# Altium schematic symbol library MCU_Microchip_PIC16.SchLib: 259 symbols (part 5 of 5)
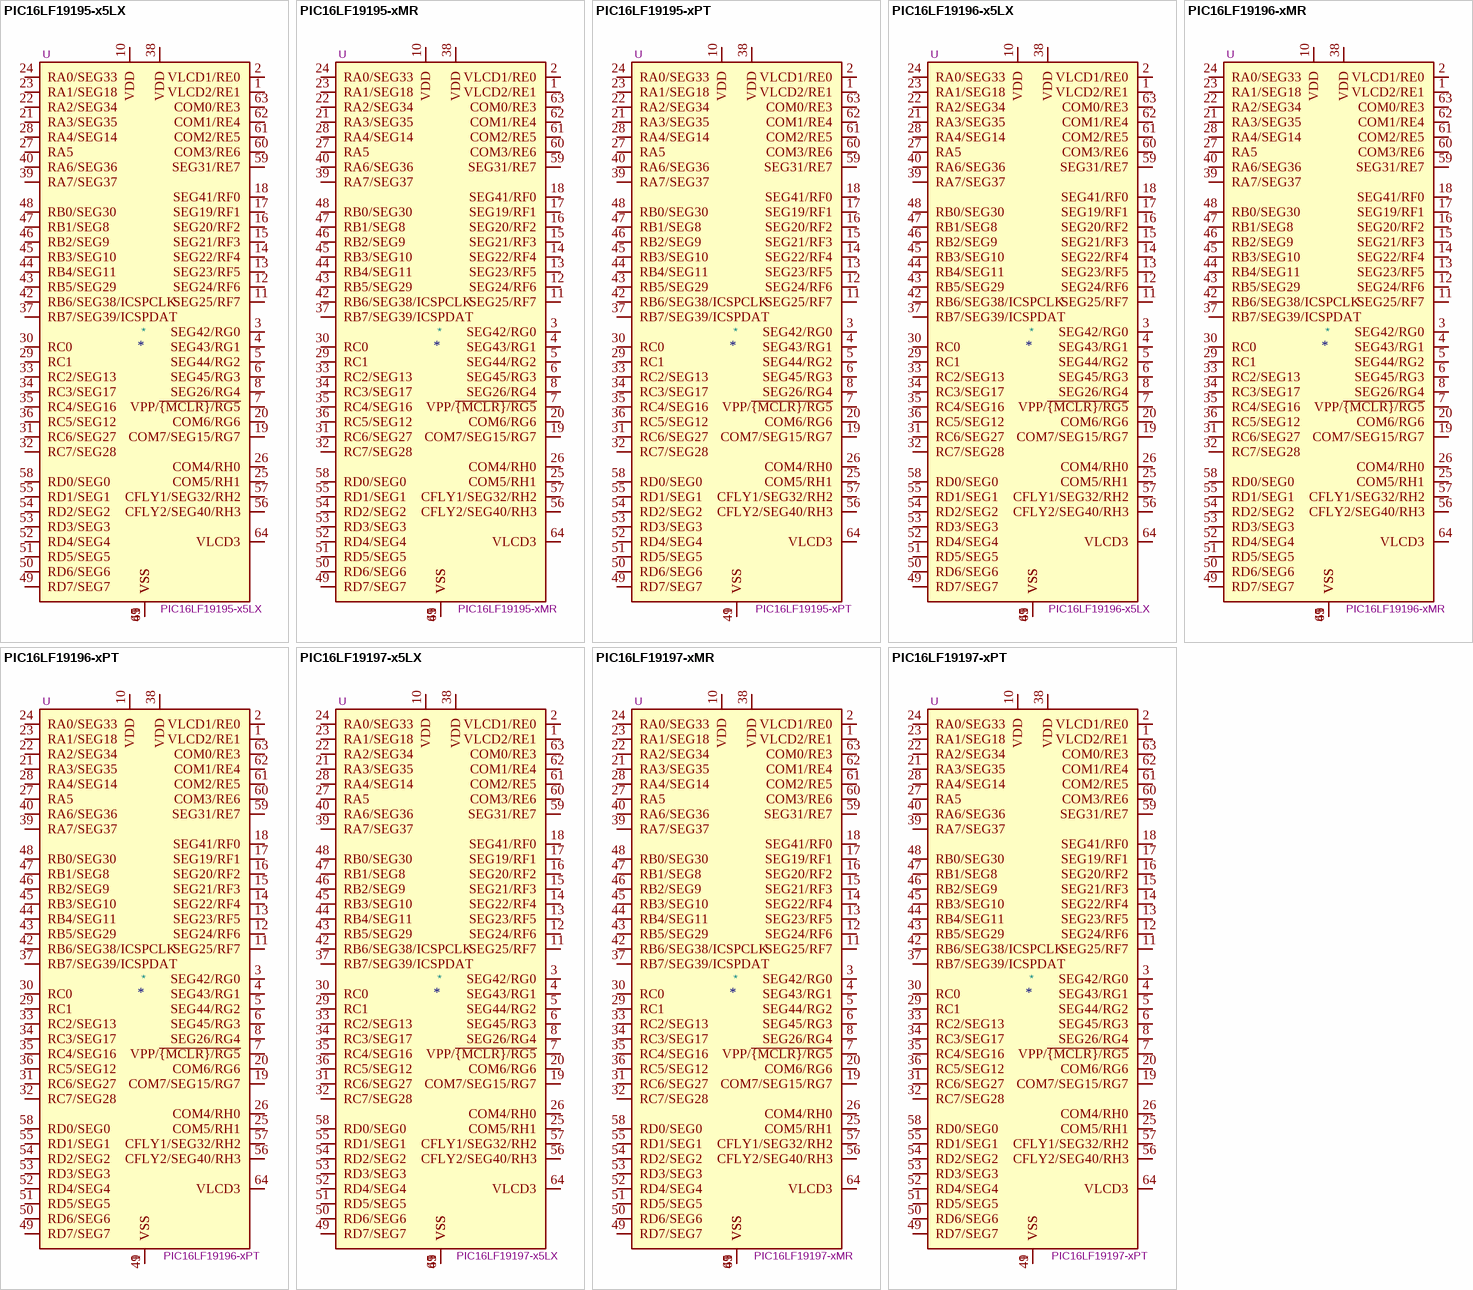
[diagram p23: symbols PIC16LF19195-x5LX to PIC16LF19197-xPT]

## PIC16LF19197-xMR
designator *  value PIC16LF19197-xMR  Reference: U
32kW FLASH, 4kB RAM, 256B EEPROM, QFN-64; ki_keywords: FLASH-Based 8-Bit CMOS Microcontroller Low Power; ki_fp_filters: QFN*9x9mm*P0.5mm*; Footprint: Package_DFN_QFN:QFN-64-1EP_9x9mm_P0.5mm_EP5.4x5.4mm; Datasheet: http://ww1.microchip.com/downloads/en/DeviceDoc/PIC16LF19195-6-7-Data-Sheet-40001873D.pdf; Description_: 32kW FLASH, 4kB RAM, 256B EEPROM, QFN-64
pins: 1 VLCD2/RE1, 2 VLCD1/RE0, 3 SEG42/RG0, 4 SEG43/RG1, 5 SEG44/RG2, 6 SEG45/RG3, 7 VPP/~{{MCLR}/RG5}, 8 SEG26/RG4, 9 VSS, 10 VDD, 11 SEG25/RF7, 12 SEG24/RF6, 13 SEG23/RF5, 14 SEG22/RF4, 15 SEG21/RF3, 16 SEG20/RF2, 17 SEG19/RF1, 18 SEG41/RF0, 19 COM7/SEG15/RG7, 20 COM6/RG6, 21 RA3/SEG35, 22 RA2/SEG34, 23 RA1/SEG18, 24 RA0/SEG33, 25 COM5/RH1, 26 COM4/RH0, 27 RA5, 28 RA4/SEG14, 29 RC1, 30 RC0, 31 RC6/SEG27, 32 RC7/SEG28, 33 RC2/SEG13, 34 RC3/SEG17, 35 RC4/SEG16, 36 RC5/SEG12, 37 RB7/SEG39/ICSPDAT, 38 VDD, 39 RA7/SEG37, 40 RA6/SEG36, 41 VSS, 42 RB6/SEG38/ICSPCLK, 43 RB5/SEG29, 44 RB4/SEG11, 45 RB3/SEG10, 46 RB2/SEG9, 47 RB1/SEG8, 48 RB0/SEG30, 49 RD7/SEG7, 50 RD6/SEG6, 51 RD5/SEG5, 52 RD4/SEG4, 53 RD3/SEG3, 54 RD2/SEG2, 55 RD1/SEG1, 56 CFLY2/SEG40/RH3, 57 CFLY1/SEG32/RH2, 58 RD0/SEG0, 59 SEG31/RE7, 60 COM3/RE6, 61 COM2/RE5, 62 COM1/RE4, 63 COM0/RE3, 64 VLCD3, 65 VSS

## PIC16LF19197-xPT
designator *  value PIC16LF19197-xPT  Reference: U
32kW FLASH, 4kB RAM, 256B EEPROM, TQFP-64; ki_keywords: FLASH-Based 8-Bit CMOS Microcontroller Low Power; ki_fp_filters: TQFP*10x10mm*P0.5mm*; Footprint: Package_QFP:TQFP-64_10x10mm_P0.5mm; Datasheet: http://ww1.microchip.com/downloads/en/DeviceDoc/PIC16LF19195-6-7-Data-Sheet-40001873D.pdf; Description_: 32kW FLASH, 4kB RAM, 256B EEPROM, TQFP-64
pins: 1 VLCD2/RE1, 2 VLCD1/RE0, 3 SEG42/RG0, 4 SEG43/RG1, 5 SEG44/RG2, 6 SEG45/RG3, 7 VPP/~{{MCLR}/RG5}, 8 SEG26/RG4, 9 VSS, 10 VDD, 11 SEG25/RF7, 12 SEG24/RF6, 13 SEG23/RF5, 14 SEG22/RF4, 15 SEG21/RF3, 16 SEG20/RF2, 17 SEG19/RF1, 18 SEG41/RF0, 19 COM7/SEG15/RG7, 20 COM6/RG6, 21 RA3/SEG35, 22 RA2/SEG34, 23 RA1/SEG18, 24 RA0/SEG33, 25 COM5/RH1, 26 COM4/RH0, 27 RA5, 28 RA4/SEG14, 29 RC1, 30 RC0, 31 RC6/SEG27, 32 RC7/SEG28, 33 RC2/SEG13, 34 RC3/SEG17, 35 RC4/SEG16, 36 RC5/SEG12, 37 RB7/SEG39/ICSPDAT, 38 VDD, 39 RA7/SEG37, 40 RA6/SEG36, 41 VSS, 42 RB6/SEG38/ICSPCLK, 43 RB5/SEG29, 44 RB4/SEG11, 45 RB3/SEG10, 46 RB2/SEG9, 47 RB1/SEG8, 48 RB0/SEG30, 49 RD7/SEG7, 50 RD6/SEG6, 51 RD5/SEG5, 52 RD4/SEG4, 53 RD3/SEG3, 54 RD2/SEG2, 55 RD1/SEG1, 56 CFLY2/SEG40/RH3, 57 CFLY1/SEG32/RH2, 58 RD0/SEG0, 59 SEG31/RE7, 60 COM3/RE6, 61 COM2/RE5, 62 COM1/RE4, 63 COM0/RE3, 64 VLCD3